# Altium schematic symbol library OTHER.SchLib: 20 symbols
Pins are listed as number, name and electrical type; pins without a type are passive.

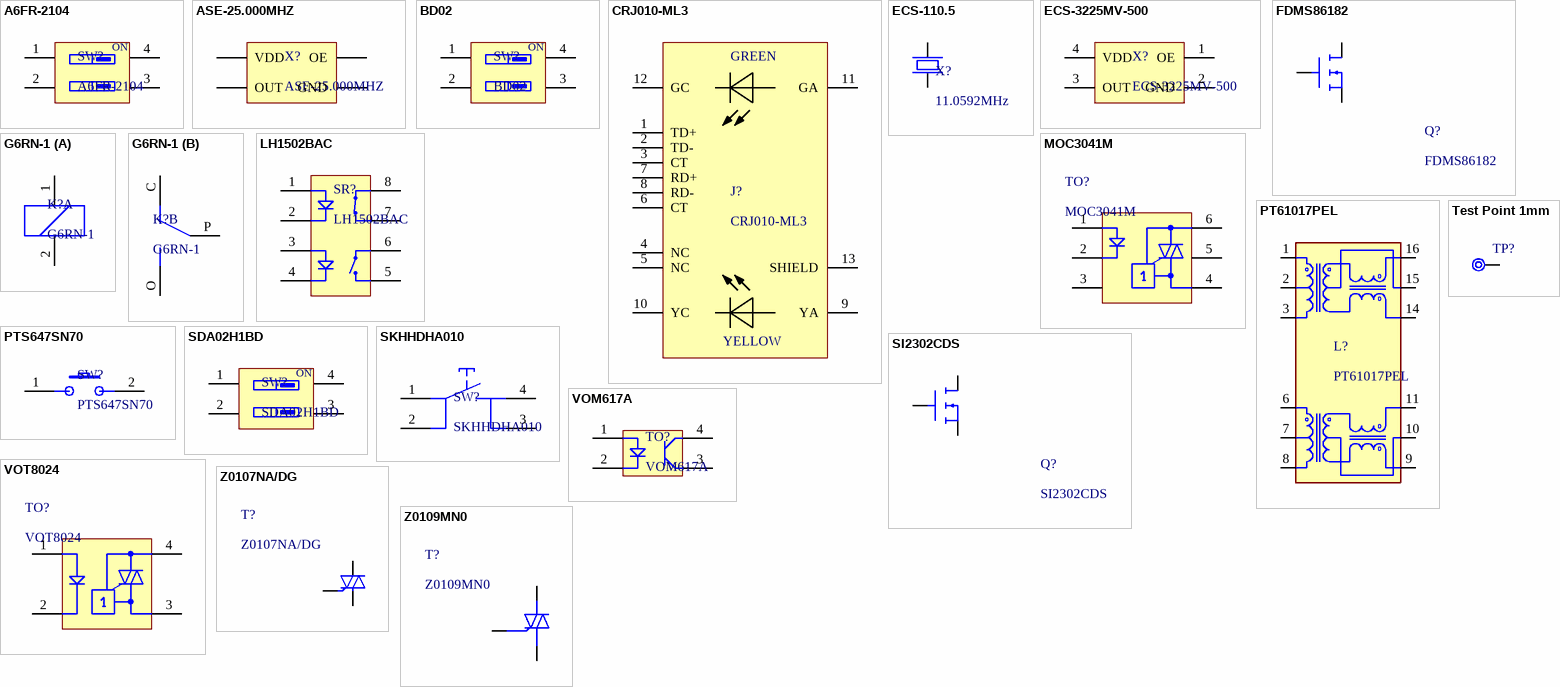
[diagram p0: symbols A6FR-2104 to Z0109MN0]

## A6FR-2104
designator SW?
DIP Switches / SIP Switches 2 Pole Long Actuator (white); Manufacturer: Omron; Distributor: Mouser; Distributor ID: 653-A6FR-2104; Part Number: A6FR-2104
footprint AF6R-2104
pins: 1, 2, 3, 4
text: ON

## ASE-25.000MHZ
designator X?
Standard Clock Oscillators; Manufacturer: Abracon; Part Number: ASE-25.000MHZ-L-R-T; Distributor 1: Mouser; Distributor 1 ID: 815-ASE-25.000-LR-T; Second Source: *
footprint ASEMB-25MHz
pins: 1 OE, 2 GND, 3 OUT, 4 VDD

## BD02
designator SW?
DIP Switches / SIP Switches STD PROFILE 2 POS; Manufacturer: C&K; Distributor: Mouser; Distributor ID: 611-BD02; Part Number: BD02
footprint BD02
pins: 1, 2, 3, 4
text: ON

## CRJ010-ML3
designator J?
Modular Connectors / Ethernet Connectors 10/100 BaseT, 8P8C, Single Port, Horizontal, Shielded, LED, Through Hole, RJ45 with Integrated Magnetics Modular Connector; Manufacturer: CUI Devices; Part Number: CRJ010-ML3-TH; Distributor 1: Mouser; Distributor 1 ID: 490-CRJ010-ML3-TH
footprint CRJ010-ML3
pins: 1 TD+, 2 TD-, 3 CT, 4 NC, 5 NC, 6 CT, 7 RD+, 8 RD-, 9 YA, 10 YC, 11 GA, 12 GC, 13 SHIELD
text: GREEN; YELLOW

## ECS-110.5
designator X?, comment 11.0592MHz
Crystals 11.0592MHz 18pF ESR 80 -40C +85C; Manufacturer: ECS; Part Number: ECS-110.5-18-30-JGN-TR; Distributor: Mouser; Distributor ID: 520-110.5-18-30-JGNT
footprint ECX-53 (DFN, 2-Leads, Body 3,20x5,00mm, Pitch 3,70mm, IPC Medium Density)
pins: 1 X1, 2 X2

## ECS-3225MV-500
designator X?
Standard Clock Oscillators 50MHz 1.6-3.6V 25ppm -40C +85C; Manufacturer: ECS; Part Number: ECS-3225MV-500-CN-TR; Distributor 1: Mouser; Distributor 1 ID: 520-3225MV-500-CNT; Second Source: *
footprint ASEMB-25MHz
pins: 1 OE, 2 GND, 3 OUT, 4 VDD

## FDMS86182
designator Q?
MOSFET PTNG 100/20V Nch Power Trench MOSFET; Manufacturer: Onsemi; Distributor 1: Mouser; Distributor 1 ID: 512-FDMS86182; Part Number: FDMS86182; Second Source: *; ComponentLink1Description: Datasheet; ComponentLink1URL: https://www.mouser.pl/datasheet/2/308/1/FDMS86182_D-2312683.pdf; ComponentLink2Description: Distributor 1; ComponentLink2URL: https://www.mouser.pl/ProductDetail/onsemi-Fairchild/FDMS86182?qs=V471yVjZJ9utOAPYzzuTZA%3D%3D
footprint FDMS86182
pins: D, G, S

## G6RN-1
designator K?
General Purpose Relays Heavy-Duty SPDT 5VDC; Manufacturer: Omron; Part Number: G6RN-1-DC5; Distributor: Mouser; Distributor ID: 653-G6RN-1-DC5
footprint G6RN-1
part A pins: 1 7, 2 8
part B pins: C, O, P

## LH1502BAC
designator SR?
Solid State Relays - PCB Mount Normally Open/Closed Form 1A/1B/1C; Manufacturer: Vishay; Distributor: Mouser; Distributor ID: 782-LH1502BAC; Part Number: LH1502BAC
footprint SMD-8
pins: 1, 2, 3, 4, 5, 6, 7, 8

## MOC3041M
designator TO?
Triac & SCR Output Optocouplers DIP-6 ZERO TRIAC; Manufacturer: On Semiconductor; Distributor: Mouser; Distributor ID: 512-MOC3041-M; Part Number: MOC3041M
footprint PDIP6
pins: 1, 2, 3, 4, 5, 6

## PT61017PEL
designator L?
350 µH LAN 10/100 Base-T Pulse Transformer 1CT:1CT Surface Mount; MF: Bourns; Package: SMD-16 Bourns; Price: None; Availability: In Stock; Purchase-URL: https://pricing.snapeda.com/search/part/PT61017PEL/?ref=eda; Check_prices: https://www.snapeda.com/parts/PT61017PEL/Bourns/view-part/?ref=eda; MP: PT61017PEL; SnapEDA_Link: https://www.snapeda.com/parts/PT61017PEL/Bourns/view-part/?ref=snap; Value: *
footprint PT61017PEL (PT61017PEL transformer)
pins: 1, 2, 3, 6, 7, 8, 9, 10, 11, 14, 15, 16

## PTS647SN70
designator SW?
Tactile Switches 50mA 12VDC, 1.0N 7.0mm H, G leads; Manufacturer: C&K; Part Number: PTS647SN70SMTR2LFS; Distributor 1: Mouser; Distributor 1 ID: 611-PTS647SN70SMTR2L
footprint PTS647SN70
pins: 1, 2

## SDA02H1BD
designator SW?
DIP Switches / SIP Switches EXT ACT 2 POS; Manufacturer: C&K; Distributor: Mouser; Distributor ID: 611-SDA02H1BD; Part Number: SDA02H1BD
footprint SDA02H1BD
pins: 1, 2, 3, 4
text: ON

## SI2302CDS
designator Q?
MOSFET 20V Vds 8V Vgs SOT-23; Manufacturer: Vishay; Part Number: SI2302CDS-T1-GE3; Distributor 1: Mouser; Distributor 1 ID: 781-SI2302CDS-T1-GE3; Second Source: *; ComponentLink1Description: Datasheet; ComponentLink1URL: https://www.mouser.pl/datasheet/2/427/VISH_S_A0008934058_1-2570581.pdf; ComponentLink2Description: Distributor 1; ComponentLink2URL: https://www.mouser.pl/ProductDetail/Vishay-Semiconductors/SI2302CDS-T1-GE3?qs=IRuQNBqMOcmu69KRt6rZUQ%3D%3D
footprint SOT-23_N_MOS (SOT23, 3-Leads, Body 2.9x1.3mm, Pitch 0.95mm, Lead Span 2.3mm, IPC Medium Density)
pins: D, G, S

## SKHHDHA010
designator SW?
Tactile Switches 50 mAmps at 12 Volts; Manufacturer: ALPS; Distributor: Mouser; Distributor ID: 688-SKHHDHA010; Part Number: SKHHDHA010
footprint SKHHDHA010
pins: 1, 2, 3, 4

## Test Point 1mm
designator TP?  (value not drawn)
footprint Pad 1mm
pins: 1

## VOM617A
designator TO?
Transistor Output Optocouplers Phototransistor Out CTR 100-200% 5mA; Manufacturer: Vishay; Part Number: VOM617A-3T; Distributor: Mouser; Distributor ID: 78-VOM617A-3T
footprint SOP-4
pins: 1, 2, 3, 4

## VOT8024
designator TO?
Triac & SCR Output Optocouplers 800V Vrdm Phototriac SOP-4; UL, cUL; Manufacturer: Vishay; Part Number: VOT8024AM-T; Distributor: Mouser; Distributor ID: 78-VOT8024AM-T
footprint SOP-4
pins: 1, 2, 3, 4

## Z0107NA/DG
designator T?
Triacs 4Q TRIAC; Manufacturer: WeEn Semiconductors; Part Number: Z0107NA/DG,116; Distributor: Mouser; Distributor ID: 771-Z0107NA/DG,116
footprint TO_92
pins: G, T1, T2

## Z0109MN0
designator T?
Triacs 600 V 1 A SOT223; Manufacturer: WeEn Semiconductors; Part Number: Z0109MN0,135; Distributor: Mouser; Distributor ID: 771-Z0109MN0135
footprint SOT223-4 (SOT223, 4-Leads, Body 6,50x7,00mm (avg), Pitch 2,30mm, IPC Medium Density)
pins: 1, 2, 3